# Altium integrated library Linear Technology Power Management PMIC Multifunction.IntLib: 360 symbols (part 18 of 42)
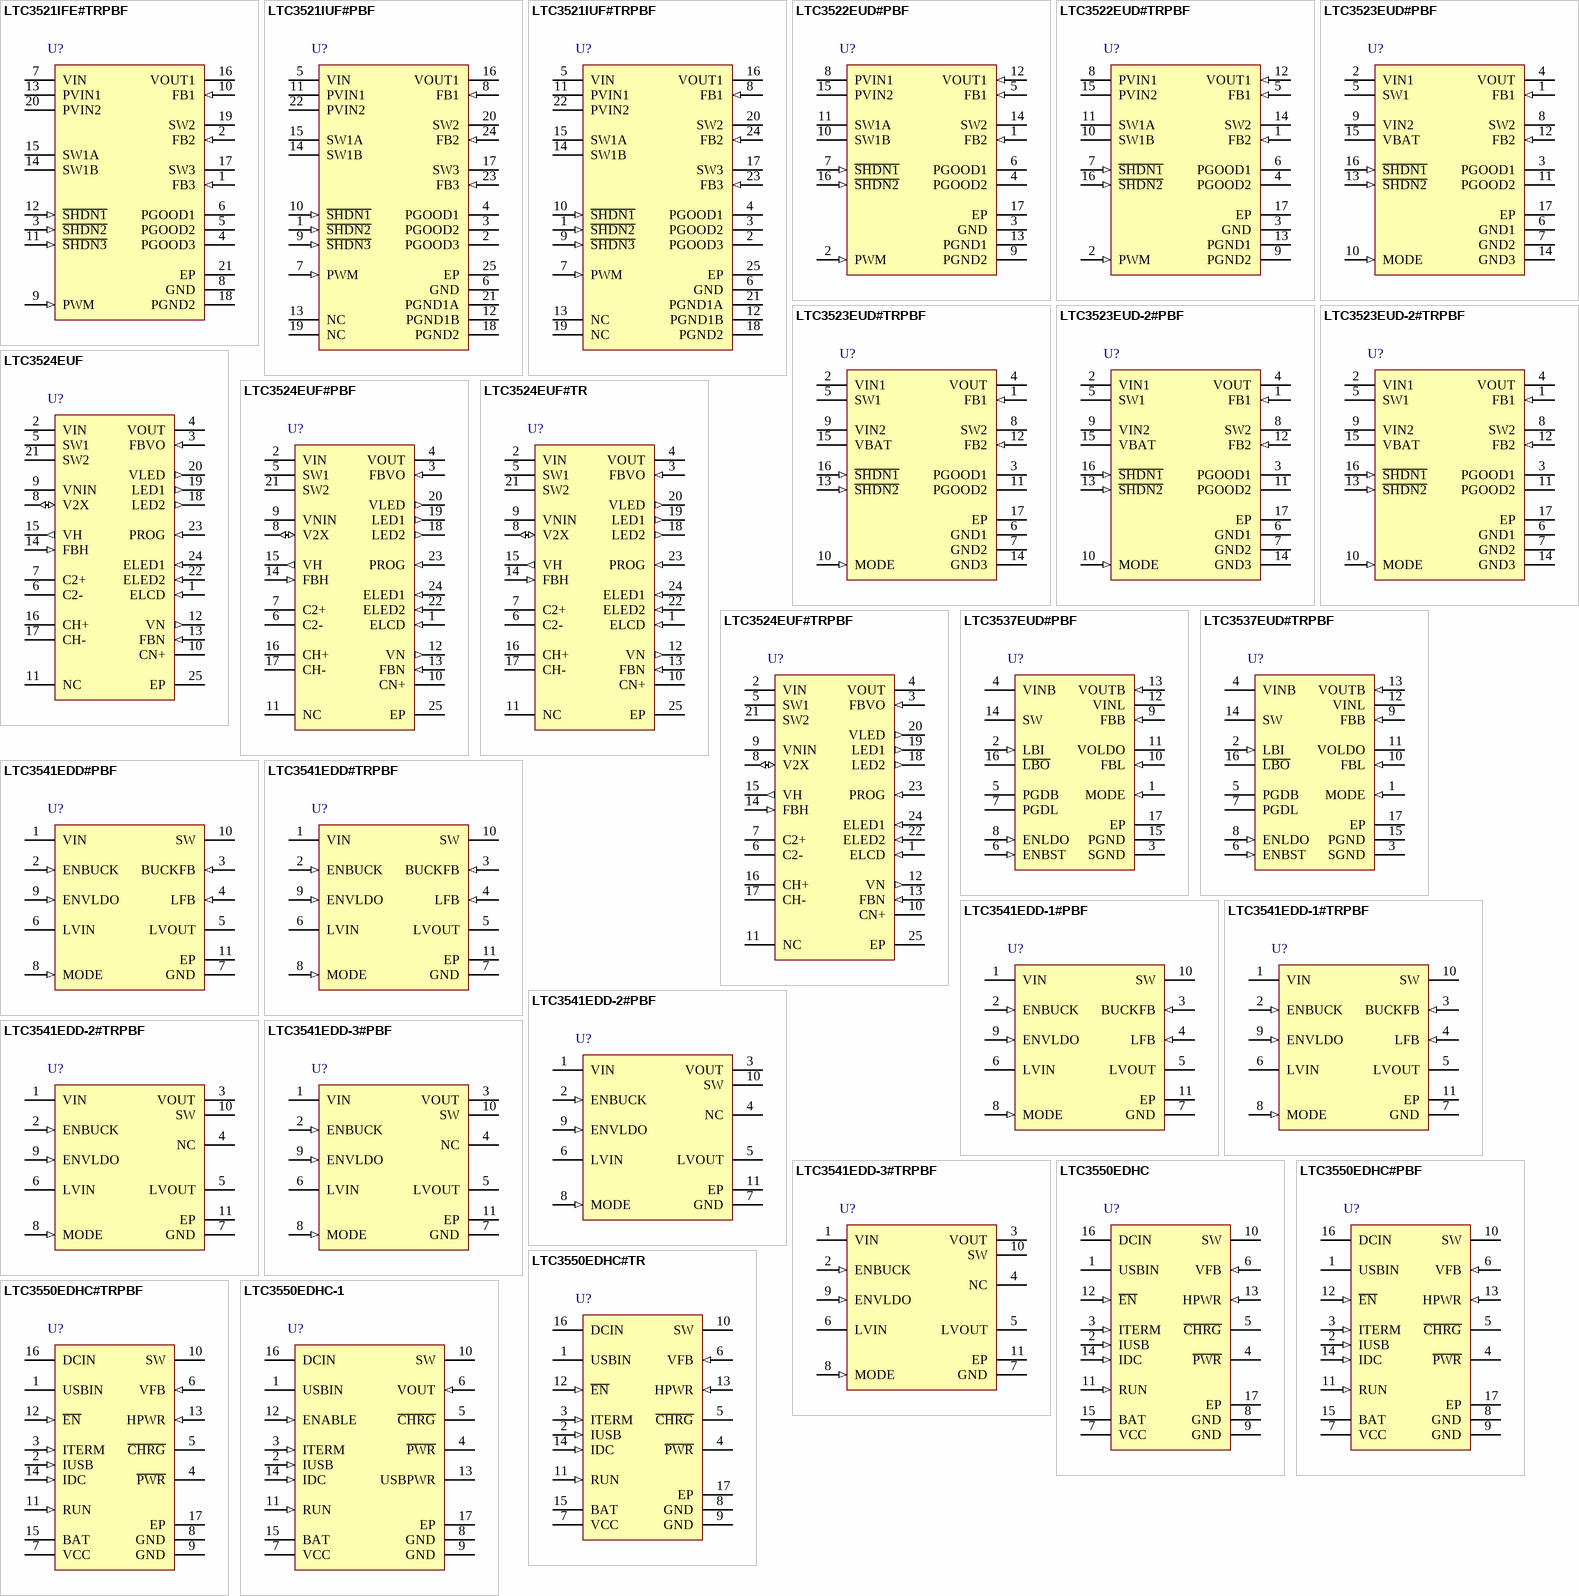
[diagram p35: symbols LTC3521IFE#TRPBF to LTC3550EDHC-1]

## LTC3541EDD#TRPBF
designator U?
High Efficiency Buck + VLDO Regulator, 2.7 to 5.5 V Vin, 10-pin SON (DD-10), -40 to 85 degC, Pb-Free, Tape and Reel; Manufacturer: Linear Technology; PartNumber: LTC3541EDD#TRPBF; Number of Outputs: 2; Vin Max(V): 5.5; Vin Min(V): 2.7; DatasheetVersion: Rev. A; PackageVersion: Rev. C, 06/2010; PackageReference: DD-10; PackageDescription: 10-Pin Plastic DFN, Body 3 x 3 mm, Pitch 0.5 mm; Supplier 1: Digi-Key; Supplier Part Number 1: LTC3541EDD#TRPBF-ND; Packing: Tape and Reel; RoHS: TRUE; Mounting Technology: Surface Mount; Code_JEDEC: MO-229; ComponentLink1Description: Manufacturer URL; ComponentLink1URL: http://www.linear.com/; ComponentLink2Description: Datasheet; ComponentLink2URL: http://cds.linear.com/docs/en/datasheet/3541fa.pdf; ComponentLink3Description: Package Specification; ComponentLink3URL: http://cds.linear.com/docs/en/packaging/DFN_10_05-08-1699.pdf
footprint LT-DD-10_V (SON, 10-Leads, Body 3x3mm, Pitch 0.5mm, Thermal Pad 2.38x1.65mm)
pins: 1 VIN (power) "Main Supply Pin. This pin must be closely decoupled to GND with a 10uF or greater capacitor.", 2 ENBUCK (in) "Buck Enable Pin. This pin enables the buck regulator when driven to a logic high.", 3 BUCKFB (in) "Buck Regulator Feedback Pin. This pin receives the buck regulator’s feedback voltage from an external resistive divider.", 4 LFB (in) "VLDO/Linear Regulator Feedback Pin. This pin receives either the VLDO or linear regulator’s feedback voltage from an external resistive divider.", 5 LVOUT (power) "VLDO/Linear Regulator Output Pin. This pin provides the regulated output voltage from the VLDO or linear regulator.", 6 LVIN (power) "VLDO/Linear Regulator Input Supply Pin. This pin provides the input supply voltage for the VLDO power FET.", 7 GND (power) "Analog Ground Pin.", 8 MODE (in) "Buck Mode Selection Pin. This pin enables buck Pulse-Skip operation when driven to a logic high and enables buck Burst Mode operation when driven to a logic low.", 9 ENVLDO (in) "VLDO/Linear Regulator Enable Pin. When driven to a logic high, this pin enables the linear regulator when the ENBUCK pin is driven to a logic low, and enables the VLDO when the ENBUCK pin is driven to a logic high.", 10 SW (power) "Switch Node Pin. This pin connects the internal main and synchronous power MOSFET switches to the external inductor for the buck regulator.", 11 EP (power) "Ground Pin. This pin must be soldered to the PCB to provide both electrical contact to ground and good thermal contact to the PCB."

## LTC3541EDD-1#PBF
designator U?
High Efficiency Buck + VLDO Regulator, 2.7 to 5.5 V Vin, 10-pin SON (DD-10), -40 to 85 degC, Pb-Free; Manufacturer: Linear Technology; PartNumber: LTC3541EDD-1#PBF; Number of Outputs: 2; Vin Max(V): 5.5; Vin Min(V): 2.7; DatasheetVersion: Rev. A; PackageVersion: Rev. C, 06/2010; PackageReference: DD-10; PackageDescription: 10-Pin Plastic DFN, Body 3 x 3 mm, Pitch 0.5 mm; Supplier 1: Digi-Key; Supplier Part Number 1: LTC3541EDD-1#PBF-ND; RoHS: TRUE; Mounting Technology: Surface Mount; Code_JEDEC: MO-229; ComponentLink1Description: Manufacturer URL; ComponentLink1URL: http://www.linear.com/; ComponentLink2Description: Datasheet; ComponentLink2URL: http://cds.linear.com/docs/en/datasheet/35411fa.pdf; ComponentLink3Description: Package Specification; ComponentLink3URL: http://cds.linear.com/docs/en/packaging/DFN_10_05-08-1699.pdf
footprint LT-DD-10_V (SON, 10-Leads, Body 3x3mm, Pitch 0.5mm, Thermal Pad 2.38x1.65mm)
pins: 1 VIN (power) "Main Supply Pin. This pin must be closely decoupled to GND with a 10uF or greater capacitor.", 2 ENBUCK (in) "Buck Enable Pin. This pin enables the buck regulator when driven to a logic high.", 3 BUCKFB (in) "Buck Regulator Feedback Pin. This pin receives the buck regulator’s feedback voltage from an external resistive divider.", 4 LFB (in) "VLDO/Linear Regulator Feedback Pin. This pin receives either the VLDO or linear regulator’s feedback voltage from an external resistive divider.", 5 LVOUT (power) "VLDO/Linear Regulator Output Pin. This pin provides the regulated output voltage from the VLDO or linear regulator.", 6 LVIN (power) "VLDO/Linear Regulator Input Supply Pin. This pin provides the input supply voltage for the VLDO power FET.", 7 GND (power) "Analog Ground Pin.", 8 MODE (in) "Buck Mode Selection Pin. This pin enables buck Pulse-Skip operation when driven to a logic high and enables buck Burst Mode operation when driven to a logic low.", 9 ENVLDO (in) "VLDO/Linear Regulator Enable Pin. When driven to a logic high, this pin enables the linear regulator when the ENBUCK pin is driven to a logic low, and enables the VLDO when the ENBUCK pin is driven to a logic high.", 10 SW (power) "Switch Node Pin. This pin connects the internal main and synchronous power MOSFET switches to the external inductor for the buck regulator.", 11 EP (power) "Ground Pin. This pin must be soldered to the PCB to provide both electrical contact to ground and good thermal contact to the PCB."

## LTC3541EDD-1#TRPBF
designator U?
High Efficiency Buck + VLDO Regulator, 2.7 to 5.5 V Vin, 10-pin SON (DD-10), -40 to 85 degC, Pb-Free, Tape and Reel; Manufacturer: Linear Technology; PartNumber: LTC3541EDD-1#TRPBF; Number of Outputs: 2; Vin Max(V): 5.5; Vin Min(V): 2.7; DatasheetVersion: Rev. A; PackageVersion: Rev. C, 06/2010; PackageReference: DD-10; PackageDescription: 10-Pin Plastic DFN, Body 3 x 3 mm, Pitch 0.5 mm; Supplier 1: Digi-Key; Supplier Part Number 1: LTC3541EDD-1#TRPBF-ND; Packing: Tape and Reel; RoHS: TRUE; Mounting Technology: Surface Mount; Code_JEDEC: MO-229; ComponentLink1Description: Manufacturer URL; ComponentLink1URL: http://www.linear.com/; ComponentLink2Description: Datasheet; ComponentLink2URL: http://cds.linear.com/docs/en/datasheet/35411fa.pdf; ComponentLink3Description: Package Specification; ComponentLink3URL: http://cds.linear.com/docs/en/packaging/DFN_10_05-08-1699.pdf
footprint LT-DD-10_V (SON, 10-Leads, Body 3x3mm, Pitch 0.5mm, Thermal Pad 2.38x1.65mm)
pins: 1 VIN (power) "Main Supply Pin. This pin must be closely decoupled to GND with a 10uF or greater capacitor.", 2 ENBUCK (in) "Buck Enable Pin. This pin enables the buck regulator when driven to a logic high.", 3 BUCKFB (in) "Buck Regulator Feedback Pin. This pin receives the buck regulator’s feedback voltage from an external resistive divider.", 4 LFB (in) "VLDO/Linear Regulator Feedback Pin. This pin receives either the VLDO or linear regulator’s feedback voltage from an external resistive divider.", 5 LVOUT (power) "VLDO/Linear Regulator Output Pin. This pin provides the regulated output voltage from the VLDO or linear regulator.", 6 LVIN (power) "VLDO/Linear Regulator Input Supply Pin. This pin provides the input supply voltage for the VLDO power FET.", 7 GND (power) "Analog Ground Pin.", 8 MODE (in) "Buck Mode Selection Pin. This pin enables buck Pulse-Skip operation when driven to a logic high and enables buck Burst Mode operation when driven to a logic low.", 9 ENVLDO (in) "VLDO/Linear Regulator Enable Pin. When driven to a logic high, this pin enables the linear regulator when the ENBUCK pin is driven to a logic low, and enables the VLDO when the ENBUCK pin is driven to a logic high.", 10 SW (power) "Switch Node Pin. This pin connects the internal main and synchronous power MOSFET switches to the external inductor for the buck regulator.", 11 EP (power) "Ground Pin. This pin must be soldered to the PCB to provide both electrical contact to ground and good thermal contact to the PCB."

## LTC3541EDD-2#PBF
designator U?
High Efficiency Buck + VLDO Regulator, 2.7 to 5.5 V Vin, 10-pin SON (DD-10), -40 to 85 degC, Pb-Free; Manufacturer: Linear Technology; PartNumber: LTC3541EDD-2#PBF; Number of Outputs: 2; Vin Max(V): 5.5; Vin Min(V): 2.7; DatasheetVersion: Rev. A; PackageVersion: Rev. C, 06/2010; PackageReference: DD-10; PackageDescription: 10-Pin Plastic DFN, Body 3 x 3 mm, Pitch 0.5 mm; Supplier 1: Digi-Key; Supplier Part Number 1: LTC3541EDD-2#PBF-ND; RoHS: TRUE; Mounting Technology: Surface Mount; Code_JEDEC: MO-229; ComponentLink1Description: Manufacturer URL; ComponentLink1URL: http://www.linear.com/; ComponentLink2Description: Datasheet; ComponentLink2URL: http://cds.linear.com/docs/en/datasheet/35412fb.pdf; ComponentLink3Description: Package Specification; ComponentLink3URL: http://cds.linear.com/docs/en/packaging/DFN_10_05-08-1699.pdf
footprint LT-DD-10_V (SON, 10-Leads, Body 3x3mm, Pitch 0.5mm, Thermal Pad 2.38x1.65mm)
pins: 1 VIN (power) "Main Supply Pin. This pin must be closely decoupled to GND with a 10uF or greater capacitor.", 2 ENBUCK (in) "Buck Enable Pin. This pin enables the buck regulator when driven to a logic high.", 3 VOUT (power) "Buck Regulator Output Pin. This pin receives the buck regulator’s output voltage.", 4 NC "Not Connected. This pin must not be connected or capacitively loaded.", 5 LVOUT (power) "VLDO/Linear Regulator Output Pin. This pin provides the regulated output voltage from the VLDO or linear regulator.", 6 LVIN (power) "VLDO/Linear Regulator Input Supply Pin. This pin provides the input supply voltage for the VLDO power FET.", 7 GND (power) "Analog Ground Pin.", 8 MODE (in) "Buck Mode Selection Pin. This pin enables buck Pulse-Skip operation when driven to a logic high and enables buck Burst Mode operation when driven to a logic low.", 9 ENVLDO (in) "VLDO/Linear Regulator Enable Pin. When driven to a logic high, this pin enables the linear regulator when the ENBUCK pin is driven to a logic low, and enables the VLDO regulator when the ENBUCK pin is driven to a logic high.", 10 SW (power) "Switch Node Pin. This pin connects the internal main and synchronous power MOSFET switches to the external inductor for the buck regulator.", 11 EP (power) "Ground Pin. This pin must be soldered to the PCB to provide both electrical contact to ground and good thermal contact to the PCB."

## LTC3541EDD-2#TRPBF
designator U?
High Efficiency Buck + VLDO Regulator, 2.7 to 5.5 V Vin, 10-pin SON (DD-10), -40 to 85 degC, Pb-Free, Tape and Reel; Manufacturer: Linear Technology; PartNumber: LTC3541EDD-2#TRPBF; Number of Outputs: 2; Vin Max(V): 5.5; Vin Min(V): 2.7; DatasheetVersion: Rev. A; PackageVersion: Rev. C, 06/2010; PackageReference: DD-10; PackageDescription: 10-Pin Plastic DFN, Body 3 x 3 mm, Pitch 0.5 mm; Supplier 1: Digi-Key; Supplier Part Number 1: LTC3541EDD-2#TRPBF-ND; Packing: Tape and Reel; RoHS: TRUE; Mounting Technology: Surface Mount; Code_JEDEC: MO-229; ComponentLink1Description: Manufacturer URL; ComponentLink1URL: http://www.linear.com/; ComponentLink2Description: Datasheet; ComponentLink2URL: http://cds.linear.com/docs/en/datasheet/35412fb.pdf; ComponentLink3Description: Package Specification; ComponentLink3URL: http://cds.linear.com/docs/en/packaging/DFN_10_05-08-1699.pdf
footprint LT-DD-10_V (SON, 10-Leads, Body 3x3mm, Pitch 0.5mm, Thermal Pad 2.38x1.65mm)
pins: 1 VIN (power) "Main Supply Pin. This pin must be closely decoupled to GND with a 10uF or greater capacitor.", 2 ENBUCK (in) "Buck Enable Pin. This pin enables the buck regulator when driven to a logic high.", 3 VOUT (power) "Buck Regulator Output Pin. This pin receives the buck regulator’s output voltage.", 4 NC "Not Connected. This pin must not be connected or capacitively loaded.", 5 LVOUT (power) "VLDO/Linear Regulator Output Pin. This pin provides the regulated output voltage from the VLDO or linear regulator.", 6 LVIN (power) "VLDO/Linear Regulator Input Supply Pin. This pin provides the input supply voltage for the VLDO power FET.", 7 GND (power) "Analog Ground Pin.", 8 MODE (in) "Buck Mode Selection Pin. This pin enables buck Pulse-Skip operation when driven to a logic high and enables buck Burst Mode operation when driven to a logic low.", 9 ENVLDO (in) "VLDO/Linear Regulator Enable Pin. When driven to a logic high, this pin enables the linear regulator when the ENBUCK pin is driven to a logic low, and enables the VLDO regulator when the ENBUCK pin is driven to a logic high.", 10 SW (power) "Switch Node Pin. This pin connects the internal main and synchronous power MOSFET switches to the external inductor for the buck regulator.", 11 EP (power) "Ground Pin. This pin must be soldered to the PCB to provide both electrical contact to ground and good thermal contact to the PCB."

## LTC3541EDD-3#PBF
designator U?
High Efficiency Buck + VLDO Regulator, 2.7 to 5.5 V Vin, 10-pin SON (DD-10), -40 to 85 degC, Pb-Free; Manufacturer: Linear Technology; PartNumber: LTC3541EDD-3#PBF; Number of Outputs: 2; Vin Max(V): 5.5; Vin Min(V): 2.7; DatasheetVersion: Rev. C; PackageVersion: Rev. C, 06/2010; PackageReference: DD-10; PackageDescription: 10-Pin Plastic DFN, Body 3 x 3 mm, Pitch 0.5 mm; Supplier 1: Digi-Key; Supplier Part Number 1: LTC3541EDD-3#PBF-ND; RoHS: TRUE; Mounting Technology: Surface Mount; Code_JEDEC: MO-229; ComponentLink1Description: Manufacturer URL; ComponentLink1URL: http://www.linear.com/; ComponentLink2Description: Datasheet; ComponentLink2URL: http://cds.linear.com/docs/en/datasheet/35413fc.pdf; ComponentLink3Description: Package Specification; ComponentLink3URL: http://cds.linear.com/docs/en/packaging/DFN_10_05-08-1699.pdf
footprint LT-DD-10_V (SON, 10-Leads, Body 3x3mm, Pitch 0.5mm, Thermal Pad 2.38x1.65mm)
pins: 1 VIN (power) "Main Supply Pin. This pin must be closely decoupled to GND with a 10uF or greater capacitor.", 2 ENBUCK (in) "Buck Enable Pin. This pin enables the buck regulator when driven to a logic high.", 3 VOUT (power) "Buck Regulator Output Pin. This pin receives the buck regulator’s output voltage.", 4 NC "Not Connected. This pin must not be connected or capacitively loaded.", 5 LVOUT (power) "VLDO/Linear Regulator Output Pin. This pin provides the regulated output voltage from the VLDO or linear regulator.", 6 LVIN (power) "VLDO/Linear Regulator Input Supply Pin. This pin provides the input supply voltage for the VLDO power FET.", 7 GND (power) "Analog Ground Pin.", 8 MODE (in) "Buck Mode Selection Pin. This pin enables buck Pulse-Skip operation when driven to a logic high and enables buck Burst Mode operation when driven to a logic low.", 9 ENVLDO (in) "VLDO/Linear Regulator Enable Pin. When driven to a logic high, this pin enables the linear regulator when the ENBUCK pin is driven to a logic low, and enables the VLDO regulator when the ENBUCK pin is driven to a logic high.", 10 SW (power) "Switch Node Pin. This pin connects the internal main and synchronous power MOSFET switches to the external inductor for the buck regulator.", 11 EP (power) "Ground Pin. This pin must be soldered to the PCB to provide both electrical contact to ground and good thermal contact to the PCB."

## LTC3541EDD-3#TRPBF
designator U?
High Efficiency Buck + VLDO Regulator, 2.7 to 5.5 V Vin, 10-pin SON (DD-10), -40 to 85 degC, Pb-Free, Tape and Reel; Manufacturer: Linear Technology; PartNumber: LTC3541EDD-3#TRPBF; Number of Outputs: 2; Vin Max(V): 5.5; Vin Min(V): 2.7; DatasheetVersion: Rev. C; PackageVersion: Rev. C, 06/2010; PackageReference: DD-10; PackageDescription: 10-Pin Plastic DFN, Body 3 x 3 mm, Pitch 0.5 mm; Supplier 1: Digi-Key; Supplier Part Number 1: LTC3541EDD-3#TRPBF-ND; Packing: Tape and Reel; RoHS: TRUE; Mounting Technology: Surface Mount; Code_JEDEC: MO-229; ComponentLink1Description: Manufacturer URL; ComponentLink1URL: http://www.linear.com/; ComponentLink2Description: Datasheet; ComponentLink2URL: http://cds.linear.com/docs/en/datasheet/35413fc.pdf; ComponentLink3Description: Package Specification; ComponentLink3URL: http://cds.linear.com/docs/en/packaging/DFN_10_05-08-1699.pdf
footprint LT-DD-10_V (SON, 10-Leads, Body 3x3mm, Pitch 0.5mm, Thermal Pad 2.38x1.65mm)
pins: 1 VIN (power) "Main Supply Pin. This pin must be closely decoupled to GND with a 10uF or greater capacitor.", 2 ENBUCK (in) "Buck Enable Pin. This pin enables the buck regulator when driven to a logic high.", 3 VOUT (power) "Buck Regulator Output Pin. This pin receives the buck regulator’s output voltage.", 4 NC "Not Connected. This pin must not be connected or capacitively loaded.", 5 LVOUT (power) "VLDO/Linear Regulator Output Pin. This pin provides the regulated output voltage from the VLDO or linear regulator.", 6 LVIN (power) "VLDO/Linear Regulator Input Supply Pin. This pin provides the input supply voltage for the VLDO power FET.", 7 GND (power) "Analog Ground Pin.", 8 MODE (in) "Buck Mode Selection Pin. This pin enables buck Pulse-Skip operation when driven to a logic high and enables buck Burst Mode operation when driven to a logic low.", 9 ENVLDO (in) "VLDO/Linear Regulator Enable Pin. When driven to a logic high, this pin enables the linear regulator when the ENBUCK pin is driven to a logic low, and enables the VLDO regulator when the ENBUCK pin is driven to a logic high.", 10 SW (power) "Switch Node Pin. This pin connects the internal main and synchronous power MOSFET switches to the external inductor for the buck regulator.", 11 EP (power) "Ground Pin. This pin must be soldered to the PCB to provide both electrical contact to ground and good thermal contact to the PCB."

## LTC3550EDHC
designator U?
Dual Input USB/AC Adapter Li-Ion Battery Charger with 600 mA Buck Converter, 4.3 to 8 V Vin, 16-pin SON (DHC-16), -40 to 85 degC; Manufacturer: Linear Technology; PartNumber: LTC3550EDHC; Number of Cells: 1; Vin Max(V): 8; Vin Min(V): 4.3; DatasheetVersion: Rev. A; PackageVersion: Jun-10; PackageReference: DHC-16; PackageDescription: 16-Pin Plastic DFN, Body 5 x 3 mm, Pitch 0.5 mm; Number of Outputs: 1; RoHS: FALSE; Mounting Technology: Surface Mount; Code_JEDEC: MO-229; ComponentLink1Description: Manufacturer URL; ComponentLink1URL: http://www.linear.com/; ComponentLink2Description: Datasheet; ComponentLink2URL: http://cds.linear.com/docs/en/datasheet/3550fa.pdf; ComponentLink3Description: Package Specification; ComponentLink3URL: http://cds.linear.com/docs/en/packaging/DFN_16_05-08-1706.pdf
footprint LT-DHC-16_V (SON, 16-Leads, Body 5x3mm, Pitch 0.5mm, Thermal Pad 4.4X1.65mm)
pins: 1 USBIN (power) "USB Input Supply Pin. Provides power to the battery charger. The maximum supply current is 650mA. This should be bypassed with a 1uF capacitor.", 2 IUSB (in) "USB Charge Current Program and Monitor Pin. The charge current can be set by connecting a resistor, RIUSB, to ground. When charging in constant-current mode, this pin servos to 1V.", 3 ITERM (in) "Termination Current Threshold Program Pin. The current termination threshold, ITERMINATE, can be set by connecting a resistor, RITERM, to ground.", 4 ~{PWR} (hiz) "Open-Drain Power Supply Status Output. When the DCIN or USBIN pin voltage is sufficient to begin charging (i.e., when the supply is greater than the undervoltage lockout threshold and at least 180mV above the battery (See Datasheet)", 5 ~{CHRG} (hiz) "Open-Drain Charge Status Output. When the LTC3550 is charging, the C\H\R\G\ pin is pulled low byan internal N-channel MOSFET. When the charge cycle is completed, C\H\R\G\ becomes high impedance. This output is capable of (See Datasheet)", 6 VFB (in) "Voltage Feedback Pin. Receives the feedback voltage from an external resistor divider across the buck regulator output.", 7 VCC (power) "Buck Regulator Input Supply Pin. Must be closely decoupled to GND (Pins 8, 9) with a 2.2uF or greater ceramic capacitor.", 8 GND (power) "Ground.", 9 GND (power) "Ground.", 10 SW (power) "Buck Regulator Switch Node Connection to Inductor. This pin connects to the drains of the internal main (top) and synchronous (bottom) power MOSFET switches.", 11 RUN (in) "Buck Regulator Run Control Input. Forcing this pin above 1.5V enables the regulator. Forcing this pin below 0.3V shuts it down. In shutdown, all buck regulator functions are disabled drawing <1uA supply current from VCC. Do (See Datasheet)", 12 ~{EN} (in) "Charger Enable Input. A logic low on this pin enables the charger. If this input is left floating, an internal 2Mohm pull-down resistor defaults the LTC3550 to charge mode. Pull this pin high to disable the charger.", 13 HPWR (in) "USB High/Low Power Mode Select Input. Used to control the amount of current drawn from the USB port. A logic high on the HPWR pin sets the charge current to 100% of the current programmed by the IUSB pin. A logic low on the (See Datasheet)", 14 IDC (in) "Wall Adapter Charge Current Program and Monitor Pin. The charge current is set by connecting a resistor, RIDC, to ground. When charging in constantcurrent mode, this pin servos to 1V.", 15 BAT (power) "Charger Output. This pin provides charge current to the battery and regulates the final float voltage to 4.2V.", 16 DCIN (power) "Wall Adapter Input Supply Pin. Provides power to the battery charger. The maximum supply current is 950mA. This should be bypassed with a 1uF capacitor.", 17 EP (power) "GND. The exposed backside of the package is ground and must be soldered to the PCB ground for electrical connection and maximum heat transfer."

## LTC3550EDHC#PBF
designator U?
Dual Input USB/AC Adapter Li-Ion Battery Charger with 600 mA Buck Converter, 4.3 to 8 V Vin, 16-pin SON (DHC-16), -40 to 85 degC, Pb-Free; Manufacturer: Linear Technology; PartNumber: LTC3550EDHC#PBF; Number of Cells: 1; Vin Max(V): 8; Vin Min(V): 4.3; DatasheetVersion: Rev. A; PackageVersion: Jun-10; PackageReference: DHC-16; PackageDescription: 16-Pin Plastic DFN, Body 5 x 3 mm, Pitch 0.5 mm; Supplier 1: Digi-Key; Supplier Part Number 1: LTC3550EDHC#PBF-ND; Supplier 2: Newark; Supplier Part Number 2: 58M0789; Number of Outputs: 1; RoHS: TRUE; Mounting Technology: Surface Mount; Code_JEDEC: MO-229; ComponentLink1Description: Manufacturer URL; ComponentLink1URL: http://www.linear.com/; ComponentLink2Description: Datasheet; ComponentLink2URL: http://cds.linear.com/docs/en/datasheet/3550fa.pdf; ComponentLink3Description: Package Specification; ComponentLink3URL: http://cds.linear.com/docs/en/packaging/DFN_16_05-08-1706.pdf
footprint LT-DHC-16_V (SON, 16-Leads, Body 5x3mm, Pitch 0.5mm, Thermal Pad 4.4X1.65mm)
pins: 1 USBIN (power) "USB Input Supply Pin. Provides power to the battery charger. The maximum supply current is 650mA. This should be bypassed with a 1uF capacitor.", 2 IUSB (in) "USB Charge Current Program and Monitor Pin. The charge current can be set by connecting a resistor, RIUSB, to ground. When charging in constant-current mode, this pin servos to 1V.", 3 ITERM (in) "Termination Current Threshold Program Pin. The current termination threshold, ITERMINATE, can be set by connecting a resistor, RITERM, to ground.", 4 ~{PWR} (hiz) "Open-Drain Power Supply Status Output. When the DCIN or USBIN pin voltage is sufficient to begin charging (i.e., when the supply is greater than the undervoltage lockout threshold and at least 180mV above the battery (See Datasheet)", 5 ~{CHRG} (hiz) "Open-Drain Charge Status Output. When the LTC3550 is charging, the C\H\R\G\ pin is pulled low byan internal N-channel MOSFET. When the charge cycle is completed, C\H\R\G\ becomes high impedance. This output is capable of (See Datasheet)", 6 VFB (in) "Voltage Feedback Pin. Receives the feedback voltage from an external resistor divider across the buck regulator output.", 7 VCC (power) "Buck Regulator Input Supply Pin. Must be closely decoupled to GND (Pins 8, 9) with a 2.2uF or greater ceramic capacitor.", 8 GND (power) "Ground.", 9 GND (power) "Ground.", 10 SW (power) "Buck Regulator Switch Node Connection to Inductor. This pin connects to the drains of the internal main (top) and synchronous (bottom) power MOSFET switches.", 11 RUN (in) "Buck Regulator Run Control Input. Forcing this pin above 1.5V enables the regulator. Forcing this pin below 0.3V shuts it down. In shutdown, all buck regulator functions are disabled drawing <1uA supply current from VCC. Do (See Datasheet)", 12 ~{EN} (in) "Charger Enable Input. A logic low on this pin enables the charger. If this input is left floating, an internal 2Mohm pull-down resistor defaults the LTC3550 to charge mode. Pull this pin high to disable the charger.", 13 HPWR (in) "USB High/Low Power Mode Select Input. Used to control the amount of current drawn from the USB port. A logic high on the HPWR pin sets the charge current to 100% of the current programmed by the IUSB pin. A logic low on the (See Datasheet)", 14 IDC (in) "Wall Adapter Charge Current Program and Monitor Pin. The charge current is set by connecting a resistor, RIDC, to ground. When charging in constantcurrent mode, this pin servos to 1V.", 15 BAT (power) "Charger Output. This pin provides charge current to the battery and regulates the final float voltage to 4.2V.", 16 DCIN (power) "Wall Adapter Input Supply Pin. Provides power to the battery charger. The maximum supply current is 950mA. This should be bypassed with a 1uF capacitor.", 17 EP (power) "GND. The exposed backside of the package is ground and must be soldered to the PCB ground for electrical connection and maximum heat transfer."

## LTC3550EDHC#TR
designator U?
Dual Input USB/AC Adapter Li-Ion Battery Charger with 600 mA Buck Converter, 4.3 to 8 V Vin, 16-pin SON (DHC-16), -40 to 85 degC, Tape and Reel; Manufacturer: Linear Technology; PartNumber: LTC3550EDHC#TR; Number of Cells: 1; Vin Max(V): 8; Vin Min(V): 4.3; DatasheetVersion: Rev. A; PackageVersion: Jun-10; PackageReference: DHC-16; PackageDescription: 16-Pin Plastic DFN, Body 5 x 3 mm, Pitch 0.5 mm; Number of Outputs: 1; Packing: Tape and Reel; RoHS: FALSE; Mounting Technology: Surface Mount; Code_JEDEC: MO-229; ComponentLink1Description: Manufacturer URL; ComponentLink1URL: http://www.linear.com/; ComponentLink2Description: Datasheet; ComponentLink2URL: http://cds.linear.com/docs/en/datasheet/3550fa.pdf; ComponentLink3Description: Package Specification; ComponentLink3URL: http://cds.linear.com/docs/en/packaging/DFN_16_05-08-1706.pdf
footprint LT-DHC-16_V (SON, 16-Leads, Body 5x3mm, Pitch 0.5mm, Thermal Pad 4.4X1.65mm)
pins: 1 USBIN (power) "USB Input Supply Pin. Provides power to the battery charger. The maximum supply current is 650mA. This should be bypassed with a 1uF capacitor.", 2 IUSB (in) "USB Charge Current Program and Monitor Pin. The charge current can be set by connecting a resistor, RIUSB, to ground. When charging in constant-current mode, this pin servos to 1V.", 3 ITERM (in) "Termination Current Threshold Program Pin. The current termination threshold, ITERMINATE, can be set by connecting a resistor, RITERM, to ground.", 4 ~{PWR} (hiz) "Open-Drain Power Supply Status Output. When the DCIN or USBIN pin voltage is sufficient to begin charging (i.e., when the supply is greater than the undervoltage lockout threshold and at least 180mV above the battery (See Datasheet)", 5 ~{CHRG} (hiz) "Open-Drain Charge Status Output. When the LTC3550 is charging, the C\H\R\G\ pin is pulled low byan internal N-channel MOSFET. When the charge cycle is completed, C\H\R\G\ becomes high impedance. This output is capable of (See Datasheet)", 6 VFB (in) "Voltage Feedback Pin. Receives the feedback voltage from an external resistor divider across the buck regulator output.", 7 VCC (power) "Buck Regulator Input Supply Pin. Must be closely decoupled to GND (Pins 8, 9) with a 2.2uF or greater ceramic capacitor.", 8 GND (power) "Ground.", 9 GND (power) "Ground.", 10 SW (power) "Buck Regulator Switch Node Connection to Inductor. This pin connects to the drains of the internal main (top) and synchronous (bottom) power MOSFET switches.", 11 RUN (in) "Buck Regulator Run Control Input. Forcing this pin above 1.5V enables the regulator. Forcing this pin below 0.3V shuts it down. In shutdown, all buck regulator functions are disabled drawing <1uA supply current from VCC. Do (See Datasheet)", 12 ~{EN} (in) "Charger Enable Input. A logic low on this pin enables the charger. If this input is left floating, an internal 2Mohm pull-down resistor defaults the LTC3550 to charge mode. Pull this pin high to disable the charger.", 13 HPWR (in) "USB High/Low Power Mode Select Input. Used to control the amount of current drawn from the USB port. A logic high on the HPWR pin sets the charge current to 100% of the current programmed by the IUSB pin. A logic low on the (See Datasheet)", 14 IDC (in) "Wall Adapter Charge Current Program and Monitor Pin. The charge current is set by connecting a resistor, RIDC, to ground. When charging in constantcurrent mode, this pin servos to 1V.", 15 BAT (power) "Charger Output. This pin provides charge current to the battery and regulates the final float voltage to 4.2V.", 16 DCIN (power) "Wall Adapter Input Supply Pin. Provides power to the battery charger. The maximum supply current is 950mA. This should be bypassed with a 1uF capacitor.", 17 EP (power) "GND. The exposed backside of the package is ground and must be soldered to the PCB ground for electrical connection and maximum heat transfer."

## LTC3550EDHC#TRPBF
designator U?
Dual Input USB/AC Adapter Li-Ion Battery Charger with 600 mA Buck Converter, 4.3 to 8 V Vin, 16-pin SON (DHC-16), -40 to 85 degC, Pb-Free, Tape and Reel; Manufacturer: Linear Technology; PartNumber: LTC3550EDHC#TRPBF; Number of Cells: 1; Vin Max(V): 8; Vin Min(V): 4.3; DatasheetVersion: Rev. A; PackageVersion: Jun-10; PackageReference: DHC-16; PackageDescription: 16-Pin Plastic DFN, Body 5 x 3 mm, Pitch 0.5 mm; Supplier 1: Digi-Key; Supplier Part Number 1: LTC3550EDHC#TRPBF-ND; Number of Outputs: 1; Packing: Tape and Reel; RoHS: TRUE; Mounting Technology: Surface Mount; Code_JEDEC: MO-229; ComponentLink1Description: Manufacturer URL; ComponentLink1URL: http://www.linear.com/; ComponentLink2Description: Datasheet; ComponentLink2URL: http://cds.linear.com/docs/en/datasheet/3550fa.pdf; ComponentLink3Description: Package Specification; ComponentLink3URL: http://cds.linear.com/docs/en/packaging/DFN_16_05-08-1706.pdf
footprint LT-DHC-16_V (SON, 16-Leads, Body 5x3mm, Pitch 0.5mm, Thermal Pad 4.4X1.65mm)
pins: 1 USBIN (power) "USB Input Supply Pin. Provides power to the battery charger. The maximum supply current is 650mA. This should be bypassed with a 1uF capacitor.", 2 IUSB (in) "USB Charge Current Program and Monitor Pin. The charge current can be set by connecting a resistor, RIUSB, to ground. When charging in constant-current mode, this pin servos to 1V.", 3 ITERM (in) "Termination Current Threshold Program Pin. The current termination threshold, ITERMINATE, can be set by connecting a resistor, RITERM, to ground.", 4 ~{PWR} (hiz) "Open-Drain Power Supply Status Output. When the DCIN or USBIN pin voltage is sufficient to begin charging (i.e., when the supply is greater than the undervoltage lockout threshold and at least 180mV above the battery (See Datasheet)", 5 ~{CHRG} (hiz) "Open-Drain Charge Status Output. When the LTC3550 is charging, the C\H\R\G\ pin is pulled low byan internal N-channel MOSFET. When the charge cycle is completed, C\H\R\G\ becomes high impedance. This output is capable of (See Datasheet)", 6 VFB (in) "Voltage Feedback Pin. Receives the feedback voltage from an external resistor divider across the buck regulator output.", 7 VCC (power) "Buck Regulator Input Supply Pin. Must be closely decoupled to GND (Pins 8, 9) with a 2.2uF or greater ceramic capacitor.", 8 GND (power) "Ground.", 9 GND (power) "Ground.", 10 SW (power) "Buck Regulator Switch Node Connection to Inductor. This pin connects to the drains of the internal main (top) and synchronous (bottom) power MOSFET switches.", 11 RUN (in) "Buck Regulator Run Control Input. Forcing this pin above 1.5V enables the regulator. Forcing this pin below 0.3V shuts it down. In shutdown, all buck regulator functions are disabled drawing <1uA supply current from VCC. Do (See Datasheet)", 12 ~{EN} (in) "Charger Enable Input. A logic low on this pin enables the charger. If this input is left floating, an internal 2Mohm pull-down resistor defaults the LTC3550 to charge mode. Pull this pin high to disable the charger.", 13 HPWR (in) "USB High/Low Power Mode Select Input. Used to control the amount of current drawn from the USB port. A logic high on the HPWR pin sets the charge current to 100% of the current programmed by the IUSB pin. A logic low on the (See Datasheet)", 14 IDC (in) "Wall Adapter Charge Current Program and Monitor Pin. The charge current is set by connecting a resistor, RIDC, to ground. When charging in constantcurrent mode, this pin servos to 1V.", 15 BAT (power) "Charger Output. This pin provides charge current to the battery and regulates the final float voltage to 4.2V.", 16 DCIN (power) "Wall Adapter Input Supply Pin. Provides power to the battery charger. The maximum supply current is 950mA. This should be bypassed with a 1uF capacitor.", 17 EP (power) "GND. The exposed backside of the package is ground and must be soldered to the PCB ground for electrical connection and maximum heat transfer."

## LTC3550EDHC-1
designator U?
Dual Input USB/AC Adapter Li-Ion Battery Charger with 600 mA Buck Converter, 4.3 to 8 V Vin, 16-pin SON (DHC-16), -40 to 85 degC; Manufacturer: Linear Technology; PartNumber: LTC3550EDHC-1; Number of Cells: 1; Vin Max(V): 8; Vin Min(V): 4.3; PackageVersion: Jun-10; PackageReference: DHC-16; PackageDescription: 16-Pin Plastic DFN, Body 5 x 3 mm, Pitch 0.5 mm; Number of Outputs: 1; RoHS: FALSE; Mounting Technology: Surface Mount; Code_JEDEC: MO-229; ComponentLink1Description: Manufacturer URL; ComponentLink1URL: http://www.linear.com/; ComponentLink2Description: Datasheet; ComponentLink2URL: http://cds.linear.com/docs/en/datasheet/35501f.pdf; ComponentLink3Description: Package Specification; ComponentLink3URL: http://cds.linear.com/docs/en/packaging/DFN_16_05-08-1706.pdf
footprint LT-DHC-16_V (SON, 16-Leads, Body 5x3mm, Pitch 0.5mm, Thermal Pad 4.4X1.65mm)
pins: 1 USBIN (power) "USB Input Supply Pin. Provides power to the battery charger. The maximum supply current is 650mA. This should be bypassed with a 1uF capacitor.", 2 IUSB (in) "USB Charge Current Program and Monitor Pin. The charge current can be set by connecting a resistor, RIUSB, to ground. When charging in constant-current mode, this pin servos to 1V.", 3 ITERM (in) "Termination Current Threshold Program Pin. The current termination threshold, ITERMINATE, can be set by connecting a resistor, RITERM, to ground.", 4 ~{PWR} (hiz) "Open-Drain Power Supply Status Output. When the DCIN or USBIN pin voltage is sufficient to begin charging (i.e., when the supply is greater than the undervoltage lockout threshold and at least 180mV above the battery (See Datasheet)", 5 ~{CHRG} (hiz) "Open-Drain Charge Status Output. When the LTC3550 is charging, the C\H\R\G\ pin is pulled low byan internal N-channel MOSFET. When the charge cycle is completed, C\H\R\G\ becomes high impedance. This output is capable of (See Datasheet)", 6 VOUT (in) "Output Voltage Feedback Pin. Receives the feedback voltage from the buck regulator output.", 7 VCC (power) "Buck Regulator Input Supply Pin. Must be closely decoupled to GND (Pins 8, 9) with a 2.2uF or greater ceramic capacitor.", 8 GND (power) "Ground.", 9 GND (power) "Ground.", 10 SW (power) "Buck Regulator Switch Node Connection to Inductor. This pin connects to the drains of the internal main (top) and synchronous (bottom) power MOSFET switches.", 11 RUN (in) "Buck Regulator Run Control Input. Forcing this pin above 1.5V enables the regulator. Forcing this pin below 0.3V shuts it down. In shutdown, all buck regulator functions are disabled drawing <1uA supply current from VCC. Do (See Datasheet)", 12 ENABLE (in) "Charger Enable Input. When the LTC3550-1 is charging from the DCIN source, a logic low on this pin enables the charger. When the LTC3550-1 is charging from the USBIN source, a logic high on this pin enables the charger. If (See Datasheet)", 13 USBPWR (hiz) "Open-Drain USB Power Status Output. When the voltage on the USBIN pin is suffi cient to begin charging and there is insuffi cient power at DCIN, the USBPWR pin is high impedance. In all other cases, this pin is pulled low by (See Datasheet)", 14 IDC (in) "Wall Adapter Charge Current Program and Monitor Pin. The charge current is set by connecting a resistor, RIDC, to ground. When charging in constantcurrent mode, this pin servos to 1V.", 15 BAT (power) "Charger Output. This pin provides charge current to the battery and regulates the final float voltage to 4.2V.", 16 DCIN (power) "Wall Adapter Input Supply Pin. Provides power to the battery charger. The maximum supply current is 950mA. This should be bypassed with a 1uF capacitor.", 17 EP (power) "GND. The exposed backside of the package is ground and must be soldered to the PCB ground for electrical connection and maximum heat transfer."

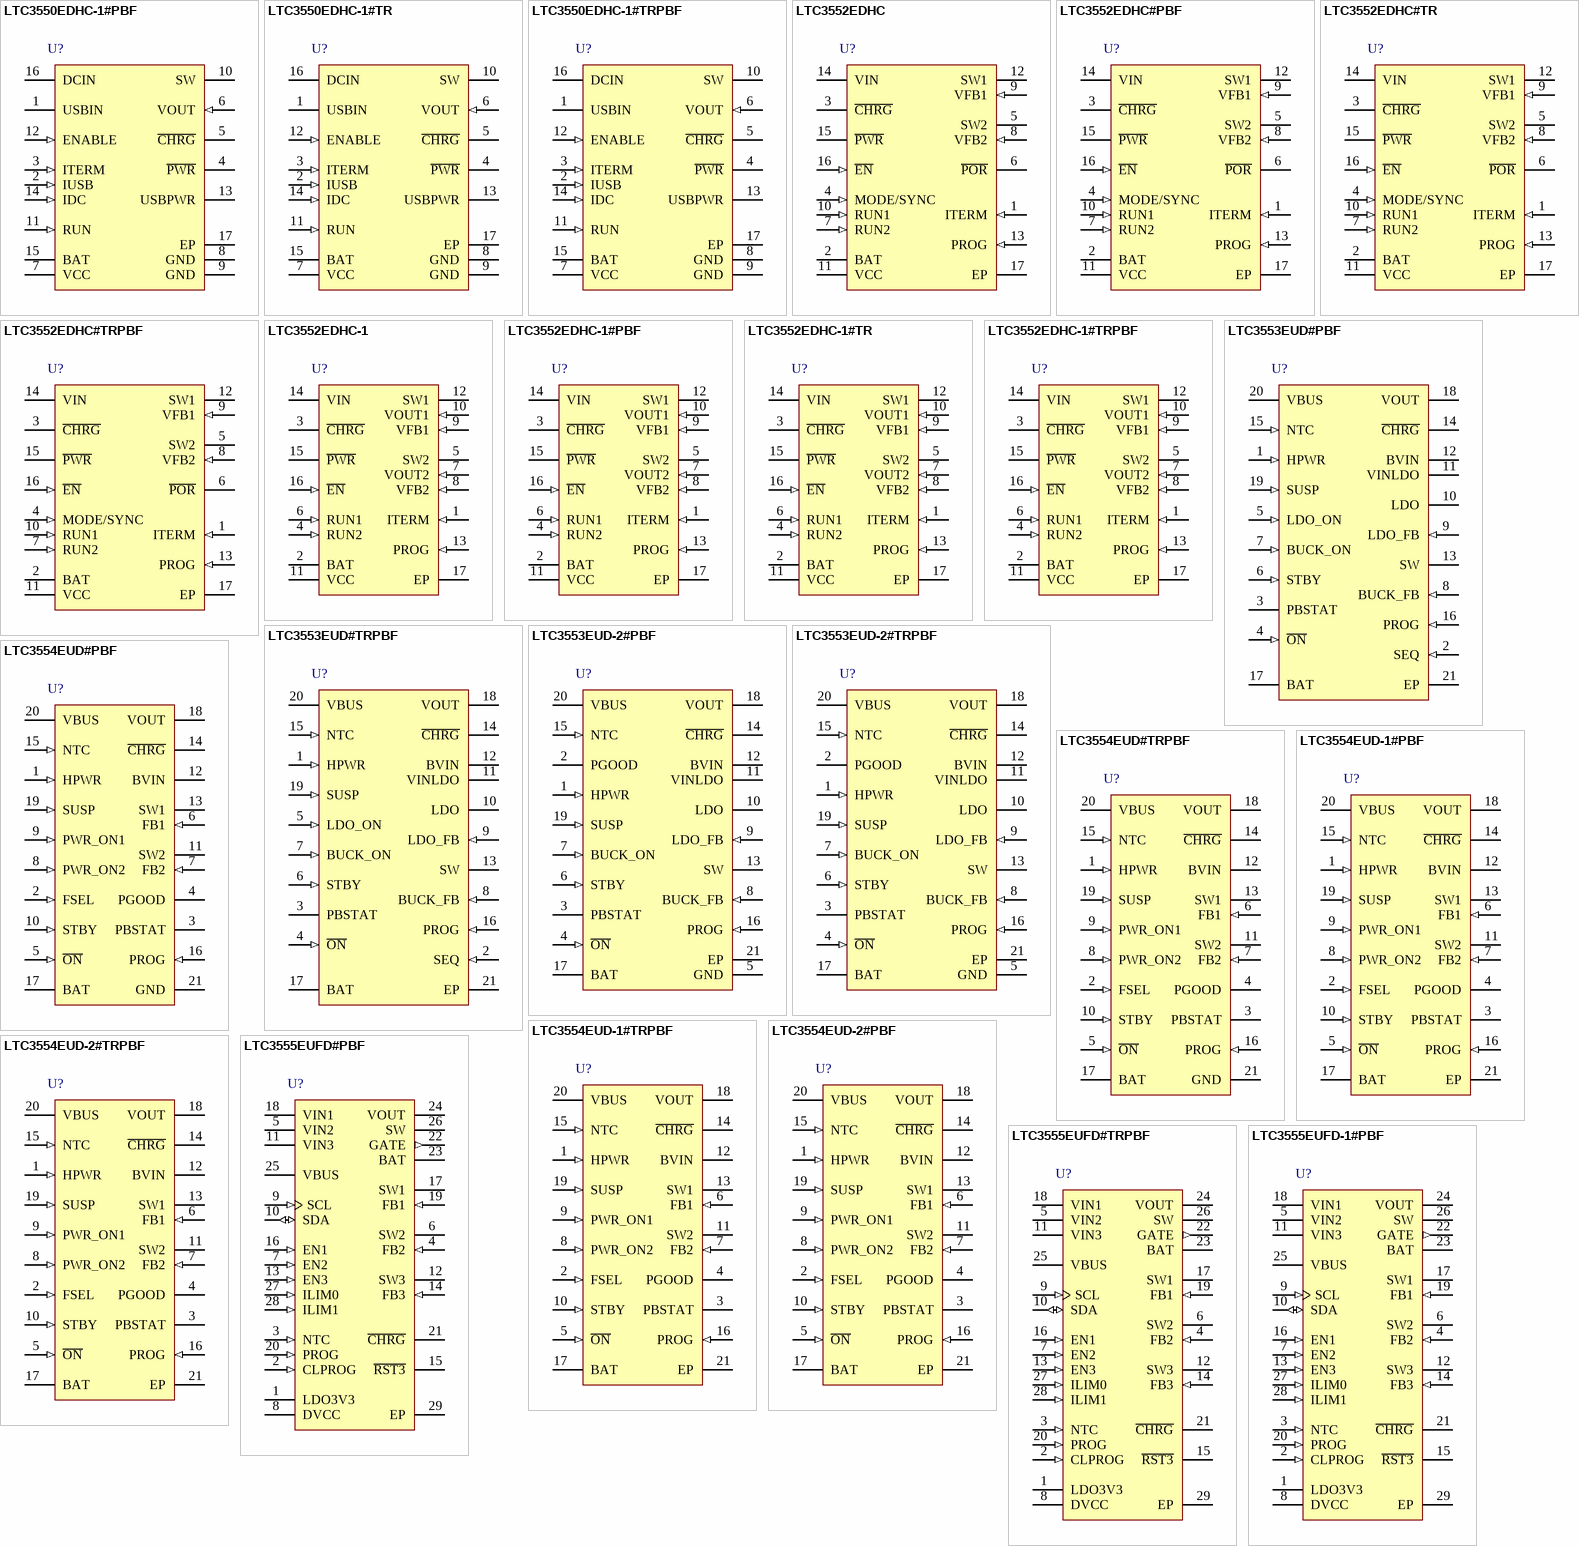
[diagram p8: symbols LTC3550EDHC-1#PBF to LTC3555EUFD-1#PBF]

## LTC3550EDHC-1#PBF
designator U?
Dual Input USB/AC Adapter Li-Ion Battery Charger with 600 mA Buck Converter, 4.3 to 8 V Vin, 16-pin SON (DHC-16), -40 to 85 degC, Pb-Free; Manufacturer: Linear Technology; PartNumber: LTC3550EDHC-1#PBF; Number of Cells: 1; Vin Max(V): 8; Vin Min(V): 4.3; PackageVersion: Jun-10; PackageReference: DHC-16; PackageDescription: 16-Pin Plastic DFN, Body 5 x 3 mm, Pitch 0.5 mm; Supplier 1: Digi-Key; Supplier Part Number 1: LTC3550EDHC-1#PBF-ND; Number of Outputs: 1; RoHS: TRUE; Mounting Technology: Surface Mount; Code_JEDEC: MO-229; ComponentLink1Description: Manufacturer URL; ComponentLink1URL: http://www.linear.com/; ComponentLink2Description: Datasheet; ComponentLink2URL: http://cds.linear.com/docs/en/datasheet/35501f.pdf; ComponentLink3Description: Package Specification; ComponentLink3URL: http://cds.linear.com/docs/en/packaging/DFN_16_05-08-1706.pdf
footprint LT-DHC-16_V (SON, 16-Leads, Body 5x3mm, Pitch 0.5mm, Thermal Pad 4.4X1.65mm)
pins: 1 USBIN (power) "USB Input Supply Pin. Provides power to the battery charger. The maximum supply current is 650mA. This should be bypassed with a 1uF capacitor.", 2 IUSB (in) "USB Charge Current Program and Monitor Pin. The charge current can be set by connecting a resistor, RIUSB, to ground. When charging in constant-current mode, this pin servos to 1V.", 3 ITERM (in) "Termination Current Threshold Program Pin. The current termination threshold, ITERMINATE, can be set by connecting a resistor, RITERM, to ground.", 4 ~{PWR} (hiz) "Open-Drain Power Supply Status Output. When the DCIN or USBIN pin voltage is sufficient to begin charging (i.e., when the supply is greater than the undervoltage lockout threshold and at least 180mV above the battery (See Datasheet)", 5 ~{CHRG} (hiz) "Open-Drain Charge Status Output. When the LTC3550 is charging, the C\H\R\G\ pin is pulled low byan internal N-channel MOSFET. When the charge cycle is completed, C\H\R\G\ becomes high impedance. This output is capable of (See Datasheet)", 6 VOUT (in) "Output Voltage Feedback Pin. Receives the feedback voltage from the buck regulator output.", 7 VCC (power) "Buck Regulator Input Supply Pin. Must be closely decoupled to GND (Pins 8, 9) with a 2.2uF or greater ceramic capacitor.", 8 GND (power) "Ground.", 9 GND (power) "Ground.", 10 SW (power) "Buck Regulator Switch Node Connection to Inductor. This pin connects to the drains of the internal main (top) and synchronous (bottom) power MOSFET switches.", 11 RUN (in) "Buck Regulator Run Control Input. Forcing this pin above 1.5V enables the regulator. Forcing this pin below 0.3V shuts it down. In shutdown, all buck regulator functions are disabled drawing <1uA supply current from VCC. Do (See Datasheet)", 12 ENABLE (in) "Charger Enable Input. When the LTC3550-1 is charging from the DCIN source, a logic low on this pin enables the charger. When the LTC3550-1 is charging from the USBIN source, a logic high on this pin enables the charger. If (See Datasheet)", 13 USBPWR (hiz) "Open-Drain USB Power Status Output. When the voltage on the USBIN pin is suffi cient to begin charging and there is insuffi cient power at DCIN, the USBPWR pin is high impedance. In all other cases, this pin is pulled low by (See Datasheet)", 14 IDC (in) "Wall Adapter Charge Current Program and Monitor Pin. The charge current is set by connecting a resistor, RIDC, to ground. When charging in constantcurrent mode, this pin servos to 1V.", 15 BAT (power) "Charger Output. This pin provides charge current to the battery and regulates the final float voltage to 4.2V.", 16 DCIN (power) "Wall Adapter Input Supply Pin. Provides power to the battery charger. The maximum supply current is 950mA. This should be bypassed with a 1uF capacitor.", 17 EP (power) "GND. The exposed backside of the package is ground and must be soldered to the PCB ground for electrical connection and maximum heat transfer."

## LTC3550EDHC-1#TR
designator U?
Dual Input USB/AC Adapter Li-Ion Battery Charger with 600 mA Buck Converter, 4.3 to 8 V Vin, 16-pin SON (DHC-16), -40 to 85 degC, Tape and Reel; Manufacturer: Linear Technology; PartNumber: LTC3550EDHC-1#TR; Number of Cells: 1; Vin Max(V): 8; Vin Min(V): 4.3; PackageVersion: Jun-10; PackageReference: DHC-16; PackageDescription: 16-Pin Plastic DFN, Body 5 x 3 mm, Pitch 0.5 mm; Number of Outputs: 1; Packing: Tape and Reel; RoHS: FALSE; Mounting Technology: Surface Mount; Code_JEDEC: MO-229; ComponentLink1Description: Manufacturer URL; ComponentLink1URL: http://www.linear.com/; ComponentLink2Description: Datasheet; ComponentLink2URL: http://cds.linear.com/docs/en/datasheet/35501f.pdf; ComponentLink3Description: Package Specification; ComponentLink3URL: http://cds.linear.com/docs/en/packaging/DFN_16_05-08-1706.pdf
footprint LT-DHC-16_V (SON, 16-Leads, Body 5x3mm, Pitch 0.5mm, Thermal Pad 4.4X1.65mm)
pins: 1 USBIN (power) "USB Input Supply Pin. Provides power to the battery charger. The maximum supply current is 650mA. This should be bypassed with a 1uF capacitor.", 2 IUSB (in) "USB Charge Current Program and Monitor Pin. The charge current can be set by connecting a resistor, RIUSB, to ground. When charging in constant-current mode, this pin servos to 1V.", 3 ITERM (in) "Termination Current Threshold Program Pin. The current termination threshold, ITERMINATE, can be set by connecting a resistor, RITERM, to ground.", 4 ~{PWR} (hiz) "Open-Drain Power Supply Status Output. When the DCIN or USBIN pin voltage is sufficient to begin charging (i.e., when the supply is greater than the undervoltage lockout threshold and at least 180mV above the battery (See Datasheet)", 5 ~{CHRG} (hiz) "Open-Drain Charge Status Output. When the LTC3550 is charging, the C\H\R\G\ pin is pulled low byan internal N-channel MOSFET. When the charge cycle is completed, C\H\R\G\ becomes high impedance. This output is capable of (See Datasheet)", 6 VOUT (in) "Output Voltage Feedback Pin. Receives the feedback voltage from the buck regulator output.", 7 VCC (power) "Buck Regulator Input Supply Pin. Must be closely decoupled to GND (Pins 8, 9) with a 2.2uF or greater ceramic capacitor.", 8 GND (power) "Ground.", 9 GND (power) "Ground.", 10 SW (power) "Buck Regulator Switch Node Connection to Inductor. This pin connects to the drains of the internal main (top) and synchronous (bottom) power MOSFET switches.", 11 RUN (in) "Buck Regulator Run Control Input. Forcing this pin above 1.5V enables the regulator. Forcing this pin below 0.3V shuts it down. In shutdown, all buck regulator functions are disabled drawing <1uA supply current from VCC. Do (See Datasheet)", 12 ENABLE (in) "Charger Enable Input. When the LTC3550-1 is charging from the DCIN source, a logic low on this pin enables the charger. When the LTC3550-1 is charging from the USBIN source, a logic high on this pin enables the charger. If (See Datasheet)", 13 USBPWR (hiz) "Open-Drain USB Power Status Output. When the voltage on the USBIN pin is suffi cient to begin charging and there is insuffi cient power at DCIN, the USBPWR pin is high impedance. In all other cases, this pin is pulled low by (See Datasheet)", 14 IDC (in) "Wall Adapter Charge Current Program and Monitor Pin. The charge current is set by connecting a resistor, RIDC, to ground. When charging in constantcurrent mode, this pin servos to 1V.", 15 BAT (power) "Charger Output. This pin provides charge current to the battery and regulates the final float voltage to 4.2V.", 16 DCIN (power) "Wall Adapter Input Supply Pin. Provides power to the battery charger. The maximum supply current is 950mA. This should be bypassed with a 1uF capacitor.", 17 EP (power) "GND. The exposed backside of the package is ground and must be soldered to the PCB ground for electrical connection and maximum heat transfer."

## LTC3550EDHC-1#TRPBF
designator U?
Dual Input USB/AC Adapter Li-Ion Battery Charger with 600 mA Buck Converter, 4.3 to 8 V Vin, 16-pin SON (DHC-16), -40 to 85 degC, Pb-Free, Tape and Reel; Manufacturer: Linear Technology; PartNumber: LTC3550EDHC-1#TRPBF; Number of Cells: 1; Vin Max(V): 8; Vin Min(V): 4.3; PackageVersion: Jun-10; PackageReference: DHC-16; PackageDescription: 16-Pin Plastic DFN, Body 5 x 3 mm, Pitch 0.5 mm; Supplier 1: Digi-Key; Supplier Part Number 1: LTC3550EDHC-1#TRPBF-ND; Number of Outputs: 1; Packing: Tape and Reel; RoHS: TRUE; Mounting Technology: Surface Mount; Code_JEDEC: MO-229; ComponentLink1Description: Manufacturer URL; ComponentLink1URL: http://www.linear.com/; ComponentLink2Description: Datasheet; ComponentLink2URL: http://cds.linear.com/docs/en/datasheet/35501f.pdf; ComponentLink3Description: Package Specification; ComponentLink3URL: http://cds.linear.com/docs/en/packaging/DFN_16_05-08-1706.pdf
footprint LT-DHC-16_V (SON, 16-Leads, Body 5x3mm, Pitch 0.5mm, Thermal Pad 4.4X1.65mm)
pins: 1 USBIN (power) "USB Input Supply Pin. Provides power to the battery charger. The maximum supply current is 650mA. This should be bypassed with a 1uF capacitor.", 2 IUSB (in) "USB Charge Current Program and Monitor Pin. The charge current can be set by connecting a resistor, RIUSB, to ground. When charging in constant-current mode, this pin servos to 1V.", 3 ITERM (in) "Termination Current Threshold Program Pin. The current termination threshold, ITERMINATE, can be set by connecting a resistor, RITERM, to ground.", 4 ~{PWR} (hiz) "Open-Drain Power Supply Status Output. When the DCIN or USBIN pin voltage is sufficient to begin charging (i.e., when the supply is greater than the undervoltage lockout threshold and at least 180mV above the battery (See Datasheet)", 5 ~{CHRG} (hiz) "Open-Drain Charge Status Output. When the LTC3550 is charging, the C\H\R\G\ pin is pulled low byan internal N-channel MOSFET. When the charge cycle is completed, C\H\R\G\ becomes high impedance. This output is capable of (See Datasheet)", 6 VOUT (in) "Output Voltage Feedback Pin. Receives the feedback voltage from the buck regulator output.", 7 VCC (power) "Buck Regulator Input Supply Pin. Must be closely decoupled to GND (Pins 8, 9) with a 2.2uF or greater ceramic capacitor.", 8 GND (power) "Ground.", 9 GND (power) "Ground.", 10 SW (power) "Buck Regulator Switch Node Connection to Inductor. This pin connects to the drains of the internal main (top) and synchronous (bottom) power MOSFET switches.", 11 RUN (in) "Buck Regulator Run Control Input. Forcing this pin above 1.5V enables the regulator. Forcing this pin below 0.3V shuts it down. In shutdown, all buck regulator functions are disabled drawing <1uA supply current from VCC. Do (See Datasheet)", 12 ENABLE (in) "Charger Enable Input. When the LTC3550-1 is charging from the DCIN source, a logic low on this pin enables the charger. When the LTC3550-1 is charging from the USBIN source, a logic high on this pin enables the charger. If (See Datasheet)", 13 USBPWR (hiz) "Open-Drain USB Power Status Output. When the voltage on the USBIN pin is suffi cient to begin charging and there is insuffi cient power at DCIN, the USBPWR pin is high impedance. In all other cases, this pin is pulled low by (See Datasheet)", 14 IDC (in) "Wall Adapter Charge Current Program and Monitor Pin. The charge current is set by connecting a resistor, RIDC, to ground. When charging in constantcurrent mode, this pin servos to 1V.", 15 BAT (power) "Charger Output. This pin provides charge current to the battery and regulates the final float voltage to 4.2V.", 16 DCIN (power) "Wall Adapter Input Supply Pin. Provides power to the battery charger. The maximum supply current is 950mA. This should be bypassed with a 1uF capacitor.", 17 EP (power) "GND. The exposed backside of the package is ground and must be soldered to the PCB ground for electrical connection and maximum heat transfer."